# Altium footprint library SOT_SC.PcbLib: 14 footprints
Each footprint in its own frame and in the unit in brackets; x right, y up, seen from the top. Pads: shape width x height; smd on the part's side, far side on the other; paste and mask are expansions set on the pad; w line width, h text height; cw(c..) or ccw(c..) is an arc to the next point about the centre after c.
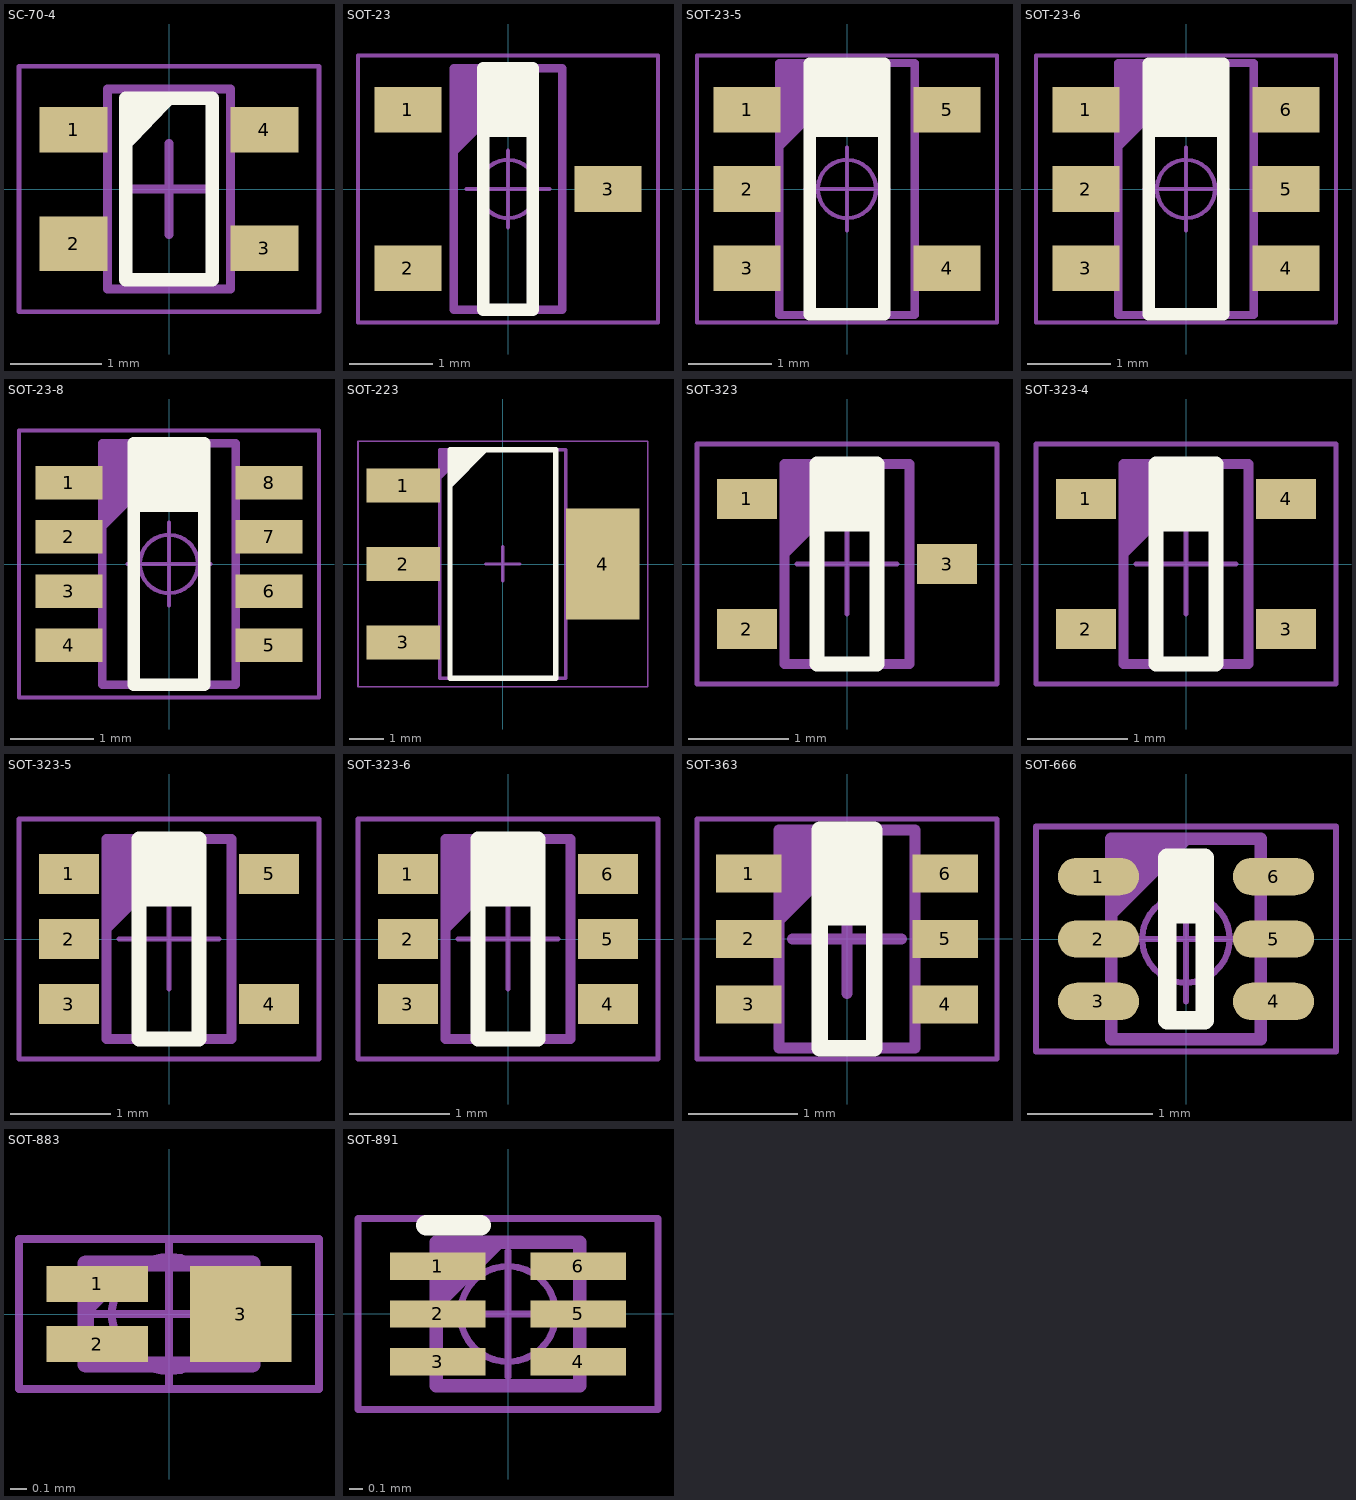
[diagram p0: the footprints below, top view; thin cyan lines are the x and y axes]

## SC-70-4 [mm] "SOT143, 4-Leads, Body 2,00x2,10mm, Pitch 1,30mm, IPC Medium Density"
height 1.1
pads (4):
  rect 0.75x0.5 smd: 1(-1.05,0.65) 3(1.05,-0.65) 4(1.05,0.65)
  rect 0.75x0.6 smd: 2(-1.05,-0.6)
Top Overlay:
  region: -0.475,0.4 -0.475,1 0.095,1
  lines w0.15: -0.475,-1 -0.475,1 0.475,1 0.475,-1 -0.475,-1
Mechanical 14:
  lines w0.1: -0.675,-1.1 0.675,-1.1 0.675,1.1 -0.675,1.1 -0.675,-1.1
  text ".Designator" at -0.4,-0.4 h0.5
Mechanical 15:
  lines w0.05: -1.65,-1.35 1.65,-1.35 1.65,1.35 -1.65,1.35 -1.65,-1.35
  lines w0.1: -0.5,0 0.5,0 ; 0,-0.5 0,0.5
3D body "SOT130P210X110-4N.step": height 1.1, standoff 0, extent -1.15,-1.1 1.15,1.1

## SOT-23 [mm]
pads (3):
  rect 0.8x0.55 smd: 1(-1.2,0.95) 2(-1.2,-0.95) 3(1.2,0)
Top Overlay:
  lines w0.15: -0.3,0.7 0.3,0.7 ; -0.3,0.85 0.3,0.85 ; -0.3,1 0.3,1 ; -0.3,1.15 0.3,1.15 ; -0.3,1.3 0.3,1.3 ; -0.3,-1.45 0.3,-1.45 0.3,1.45 -0.3,1.45 -0.3,-1.45
Mechanical 14:
  lines w0.1: -0.65,0.45 0.35,1.45 ; -0.65,0.55 0.25,1.45 ; -0.65,0.65 0.15,1.45 ; -0.65,0.75 0.05,1.45 ; -0.65,0.85 -0.05,1.45 ; -0.65,0.95 -0.15,1.45 ; -0.65,1.05 -0.25,1.45 ; -0.65,1.15 -0.35,1.45 ; -0.65,1.25 -0.45,1.45 ; -0.65,1.35 -0.55,1.45 ; -0.65,-1.45 -0.65,1.45 0.65,1.45 0.65,-1.45 -0.65,-1.45
  text ".Designator" at -0.45,-0.5 h0.3
Mechanical 15:
  circle w0.05: c0,0 r0.35
  lines w0.05: -0.5,0 0.5,0 ; 0,-0.46 0,0.46 ; -1.8,-1.6 -1.8,1.6 1.8,1.6 1.8,-1.6 -1.8,-1.6
3D body "SOT95P240X120-3N.stp": height 1.2, standoff 0, extent -1.25,-1.5 1.25,1.5

## SOT-23-5 [mm]
pads (5):
  rect 0.8x0.55 smd: 1(-1.2,0.95) 2(-1.2,0) 3(-1.2,-0.95) 4(1.2,-0.95) 5(1.2,0.95)
Top Overlay:
  lines w0.15: -0.425,0.7 0.425,0.7 ; -0.425,1.45 0.425,1.45 ; -0.4,0.8 0.4,0.8 ; -0.4,0.9 0.4,0.9 ; -0.4,1 0.4,1 ; -0.4,1.1 0.4,1.1 ; -0.4,1.2 0.4,1.2 ; -0.4,1.3 0.4,1.3 ; -0.45,-1.5 -0.45,1.5 0.45,1.5 0.45,-1.5 -0.45,-1.5
Mechanical 14:
  lines w0.1: -0.812,0.512 0.188,1.512 ; -0.812,0.612 0.088,1.512 ; -0.812,0.712 -0.012,1.512 ; -0.812,0.812 -0.112,1.512 ; -0.812,0.912 -0.212,1.512 ; -0.812,1.012 -0.312,1.512 ; -0.812,1.112 -0.412,1.512 ; -0.812,1.212 -0.512,1.512 ; -0.812,1.312 -0.612,1.512 ; -0.812,1.412 -0.712,1.512 ; -0.812,-1.512 -0.812,1.512 0.812,1.512 0.812,-1.512 -0.812,-1.512
  text ".Designator" at -0.45,-0.5 h0.3
Mechanical 15:
  circle w0.05: c0,0 r0.35
  lines w0.05: -0.5,0 0.5,0 ; 0,-0.5 0,0.5 ; -1.8,-1.6 -1.8,1.6 1.8,1.6 1.8,-1.6 -1.8,-1.6
3D body "SOT95P280X100-5N.stp": height 1, standoff 0, extent -1.4,-1.5 1.4,1.5

## SOT-23-6 [mm]
pads (6):
  rect 0.8x0.55 smd: 1(-1.2,0.95) 2(-1.2,0) 3(-1.2,-0.95) 4(1.2,-0.95) 5(1.2,0) 6(1.2,0.95)
Top Overlay:
  lines w0.15: -0.425,0.7 0.425,0.7 ; -0.425,1.45 0.425,1.45 ; -0.4,0.8 0.4,0.8 ; -0.4,0.9 0.4,0.9 ; -0.4,1 0.4,1 ; -0.4,1.1 0.4,1.1 ; -0.4,1.2 0.4,1.2 ; -0.4,1.3 0.4,1.3 ; -0.45,-1.5 -0.45,1.5 0.45,1.5 0.45,-1.5 -0.45,-1.5
Mechanical 14:
  lines w0.1: -0.812,0.512 0.188,1.512 ; -0.812,0.612 0.088,1.512 ; -0.812,0.712 -0.012,1.512 ; -0.812,0.812 -0.112,1.512 ; -0.812,0.912 -0.212,1.512 ; -0.812,1.012 -0.312,1.512 ; -0.812,1.112 -0.412,1.512 ; -0.812,1.212 -0.512,1.512 ; -0.812,1.312 -0.612,1.512 ; -0.812,1.412 -0.712,1.512 ; -0.812,-1.512 -0.812,1.512 0.812,1.512 0.812,-1.512 -0.812,-1.512
  text ".Designator" at -0.45,-0.5 h0.3
Mechanical 15:
  circle w0.05: c0,0 r0.35
  lines w0.05: -0.5,0 0.5,0 ; 0,-0.5 0,0.5 ; -1.8,-1.6 -1.8,1.6 1.8,1.6 1.8,-1.6 -1.8,-1.6
3D body "SOT95P285X110-6N.stp": height 1.1, standoff 0, extent -1.4,-1.5 1.48,1.5

## SOT-23-8 [mm]
pads (8):
  rect 0.8x0.4 smd: 1(-1.2,0.975) 2(-1.2,0.325) 3(-1.2,-0.325) 4(-1.2,-0.975) 5(1.2,-0.975) 6(1.2,-0.325) 7(1.2,0.325) 8(1.2,0.975)
Top Overlay:
  lines w0.15: -0.425,0.7 0.425,0.7 ; -0.4,1.3 0.4,1.3 ; -0.3,0.8 0.3,0.8 ; -0.3,0.9 0.3,0.9 ; -0.3,1 0.3,1 ; -0.3,1.1 0.3,1.1 ; -0.3,1.2 0.3,1.2 ; -0.425,-1.45 -0.425,1.45 0.425,1.45 0.425,-1.45 -0.425,-1.45
Mechanical 14:
  lines w0.1: -0.8,0.45 0.2,1.45 ; -0.8,0.55 0.1,1.45 ; -0.8,0.65 0,1.45 ; -0.8,0.75 -0.1,1.45 ; -0.8,0.85 -0.2,1.45 ; -0.8,0.95 -0.3,1.45 ; -0.8,1.05 -0.4,1.45 ; -0.8,1.15 -0.5,1.45 ; -0.8,1.25 -0.6,1.45 ; -0.8,1.35 -0.7,1.45 ; -0.8,-1.45 -0.8,1.45 0.8,1.45 0.8,-1.45 -0.8,-1.45
  text ".Designator" at -0.45,-0.5 h0.3
Mechanical 15:
  circle w0.05: c0,0 r0.35
  lines w0.05: -0.5,0 0.5,0 ; 0,-0.5 0,0.5 ; -1.8,-1.6 -1.8,1.6 1.8,1.6 1.8,-1.6 -1.8,-1.6
3D body "SOT65P280X145-8N.stp": height 1.2, standoff 0, extent -1.513,-1.45 1.513,1.45

## SOT-223 [mm] "SOT223, 4-Leads, Body 6,50x7,00mm (avg), Pitch 2,30mm, IPC Medium Density"
height 1.8
pads (4):
  rect 2.15x1 smd: 1(-2.925,2.3) 2(-2.925,0) 3(-2.925,-2.3)
  rect 2.15x3.25 smd: 4(2.925,0)
Top Overlay:
  lines w0.15: -1.55,2.3 -0.5,3.35 ; -1.55,2.5 -0.7,3.35 ; -1.55,2.7 -0.9,3.35 ; -1.55,2.9 -1.1,3.35 ; -1.55,3.1 -1.3,3.35 ; -1.55,-3.35 -1.55,3.35 1.55,3.35 1.55,-3.35 -1.55,-3.35
Mechanical 14:
  region: -1.85,3.35 -1.85,2.45 -0.95,3.35
  lines w0.1: -1.85,-3.35 -1.85,3.35 1.85,3.35 1.85,-3.35 -1.85,-3.35
  text ".Designator" at -0.9,-0.6 h1.2
Mechanical 15:
  lines w0.05: -4.25,-3.6 -4.25,3.6 4.25,3.6 4.25,-3.6 -4.25,-3.6
  lines w0.1: -0.5,0 0.5,0 ; 0,-0.5 0,0.5
3D body "SOT230P700X180-4N.step": height 1.8, standoff 0, extent -3.5,-3.35 3.5,3.35

## SOT-323 [mm]
pads (3):
  rect 0.6x0.4 smd: 1(-1,0.65) 2(-1,-0.65) 3(1,0)
Top Overlay:
  lines w0.15: -0.3,0.4 0.3,0.4 ; -0.3,0.5 0.3,0.5 ; -0.3,0.6 0.3,0.6 ; -0.3,0.7 0.3,0.7 ; -0.3,0.8 0.3,0.8 ; -0.3,0.9 0.3,0.9 ; -0.3,-1 -0.3,1 0.3,1 0.3,-1 -0.3,-1
Mechanical 14:
  lines w0.1: -0.625,0.1 0.275,1 ; -0.625,0.2 0.175,1 ; -0.625,0.3 0.075,1 ; -0.625,0.4 -0.025,1 ; -0.625,0.5 -0.125,1 ; -0.625,0.6 -0.225,1 ; -0.625,0.7 -0.325,1 ; -0.625,0.8 -0.425,1 ; -0.625,0.9 -0.525,1 ; -0.625,-1 0.625,-1 0.625,1 -0.625,1 -0.625,-1
  text ".Designator" at -0.45,-0.5 h0.3
Mechanical 15:
  lines w0.05: -0.5,0 0.5,0 ; 0,-0.5 0,0.5 ; -1.5,-1.2 1.5,-1.2 1.5,1.2 -1.5,1.2 -1.5,-1.2
3D body "SOT65P210X100-3N.stp": height 1, standoff 0, extent -1.1,-1.1 1.1,1.1

## SOT-323-4 [mm] "SC-82"
pads (4):
  rect 0.6x0.4 smd: 1(-1,0.65) 2(-1,-0.65) 3(1,-0.65) 4(1,0.65)
Top Overlay:
  lines w0.15: -0.3,0.4 0.3,0.4 ; -0.3,0.5 0.3,0.5 ; -0.3,0.6 0.3,0.6 ; -0.3,0.7 0.3,0.7 ; -0.3,0.8 0.3,0.8 ; -0.3,0.9 0.3,0.9 ; -0.3,-1 0.3,-1 0.3,1 -0.3,1 -0.3,-1
Mechanical 14:
  lines w0.1: -0.625,0.1 0.275,1 ; -0.625,0.2 0.175,1 ; -0.625,0.3 0.075,1 ; -0.625,0.4 -0.025,1 ; -0.625,0.5 -0.125,1 ; -0.625,0.6 -0.225,1 ; -0.625,0.7 -0.325,1 ; -0.625,0.8 -0.425,1 ; -0.625,0.9 -0.525,1 ; -0.625,-1 0.625,-1 0.625,1 -0.625,1 -0.625,-1
  text ".Designator" at -0.45,-0.5 h0.3
Mechanical 15:
  lines w0.05: -0.5,0 0.5,0 ; 0,-0.5 0,0.5 ; -1.5,-1.2 1.5,-1.2 1.5,1.2 -1.5,1.2 -1.5,-1.2
3D body "SOT65P210X110-5N.stp": height 1.1, standoff 0, extent -1.2,-1.1 1.2,1.1

## SOT-323-5 [mm]
pads (5):
  rect 0.6x0.4 smd: 1(-1,0.65) 2(-1,0) 3(-1,-0.65) 4(1,-0.65) 5(1,0.65)
Top Overlay:
  lines w0.15: -0.3,0.4 0.3,0.4 ; -0.3,0.5 0.3,0.5 ; -0.3,0.6 0.3,0.6 ; -0.3,0.7 0.3,0.7 ; -0.3,0.8 0.3,0.8 ; -0.3,0.9 0.3,0.9 ; -0.3,-1 -0.3,1 0.3,1 0.3,-1 -0.3,-1
Mechanical 14:
  lines w0.1: -0.625,0.1 0.275,1 ; -0.625,0.2 0.175,1 ; -0.625,0.3 0.075,1 ; -0.625,0.4 -0.025,1 ; -0.625,0.5 -0.125,1 ; -0.625,0.6 -0.225,1 ; -0.625,0.7 -0.325,1 ; -0.625,0.8 -0.425,1 ; -0.625,0.9 -0.525,1 ; -0.625,-1 -0.625,1 0.625,1 0.625,-1 -0.625,-1
  text ".Designator" at -0.45,-0.5 h0.3
Mechanical 15:
  lines w0.05: -0.5,0 0.5,0 ; 0,-0.5 0,0.5 ; -1.5,-1.2 -1.5,1.2 1.5,1.2 1.5,-1.2 -1.5,-1.2
3D body "SOT65P210X110-5N.stp": height 1.1, standoff 0, extent -1.2,-1.1 1.2,1.1

## SOT-323-6 [mm]
pads (6):
  rect 0.6x0.4 smd: 1(-1,0.65) 2(-1,0) 3(-1,-0.65) 4(1,-0.65) 5(1,0) 6(1,0.65)
Top Overlay:
  lines w0.15: -0.3,0.4 0.3,0.4 ; -0.3,0.5 0.3,0.5 ; -0.3,0.6 0.3,0.6 ; -0.3,0.7 0.3,0.7 ; -0.3,0.8 0.3,0.8 ; -0.3,0.9 0.3,0.9 ; -0.3,-1 -0.3,1 0.3,1 0.3,-1 -0.3,-1
Mechanical 14:
  lines w0.1: -0.625,0.1 0.275,1 ; -0.625,0.2 0.175,1 ; -0.625,0.3 0.075,1 ; -0.625,0.4 -0.025,1 ; -0.625,0.5 -0.125,1 ; -0.625,0.6 -0.225,1 ; -0.625,0.7 -0.325,1 ; -0.625,0.8 -0.425,1 ; -0.625,0.9 -0.525,1 ; -0.625,-1 -0.625,1 0.625,1 0.625,-1 -0.625,-1
  text ".Designator" at -0.45,-0.5 h0.3
Mechanical 15:
  lines w0.05: -0.5,0 0.5,0 ; 0,-0.5 0,0.5 ; -1.5,-1.2 -1.5,1.2 1.5,1.2 1.5,-1.2 -1.5,-1.2
3D body "SOT65P210X110-6N.stp": height 1.1, standoff 0, extent -1.2,-1.1 1.2,1.1

## SOT-363 [mm] "SOT23, 6-Leads, Body 2,00x2,10mm, Pitch 0,60mm, IPC High Density"
height 1.1
pads (6):
  rect 0.6x0.35 smd: 1(-0.9,0.6) 2(-0.9,0) 3(-0.9,-0.6) 4(0.9,-0.6) 5(0.9,0) 6(0.9,0.6)
Top Overlay:
  lines w0.15: -0.25,0.2 0.25,0.2 ; -0.25,0.3 0.25,0.3 ; -0.25,0.4 0.25,0.4 ; -0.25,0.5 0.25,0.5 ; -0.25,0.6 0.25,0.6 ; -0.25,0.7 0.25,0.7 ; -0.25,0.8 0.25,0.8 ; -0.25,0.9 0.25,0.9 ; -0.25,-1 0.25,-1 0.25,1 -0.25,1 -0.25,-1
Mechanical 14:
  region: -0.625,1 -0.625,0.1 0.275,1
  lines w0.1: -0.625,-1 -0.625,1 0.625,1 0.625,-1 -0.625,-1
  text ".Designator" at -0.4,-0.55 h0.3
Mechanical 15:
  lines w0.05: -1.375,-1.1 -1.375,1.1 1.375,1.1 1.375,-1.1 -1.375,-1.1
  lines w0.1: -0.5,0 0.5,0 ; 0,-0.5 0,0.5
3D body "SOT60P210X110-6L.step": height 1.1, standoff 0.01, extent -1.048,-1 1.048,1

## SOT-666 [mm] "SOTFL (SOT666), 0.50mm, Pitch; 6 Pin, 1.20mm W X 1.60mm L X 0.60mm H Body, IPC Medium Density"
height 0.6
pads (6):
  oval 0.65x0.3 smd: 1(-0.7,0.5) 2(-0.7,0) 3(-0.7,-0.5) 4(0.7,-0.5) 5(0.7,0) 6(0.7,0.5)
Top Overlay:
  lines w0.15: -0.15,0.2 0.15,0.2 ; -0.15,0.35 0.15,0.35 ; -0.15,0.45 0.15,0.45 ; -0.15,0.55 0.15,0.55 ; -0.15,-0.65 -0.15,0.65 0.15,0.65 0.15,-0.65 -0.15,-0.65
Mechanical 14:
  lines w0.1: -0.6,0.2 0,0.8 ; -0.6,0.3 -0.1,0.8 ; -0.6,0.4 -0.2,0.8 ; -0.6,0.5 -0.3,0.8 ; -0.6,0.6 -0.4,0.8 ; -0.6,0.7 -0.5,0.8 ; -0.6,-0.8 0.6,-0.8 0.6,0.8 -0.6,0.8 -0.6,-0.8
  text ".Designator" at -0.4,-0.55 h0.3
Mechanical 15:
  circle w0.05: c0,0 r0.35
  lines w0.05: -0.5,0 0.5,0 ; 0,-0.5 0,0.5 ; -1.2,-0.9 1.2,-0.9 1.2,0.9 -1.2,0.9 -1.2,-0.9
3D body "SOT50P160X60-6.STEP": height 0.6, standoff 0, extent -0.8,-0.795 0.8,0.795

## SOT-883 [mm] "DFN, 3-Leads, Body 0,59x0,98mm, Pitch 0,65mm, IPC Medium Density"
height 0.5
pads (3):
  rect 0.62x0.22 smd: 1(-0.44,0.185) 2(-0.44,-0.185)
  rect 0.62x0.59 smd: 3(0.44,0)
Mechanical 14:
  region: -0.51,0.31 -0.51,-0.035 -0.165,0.31
  lines w0.1: -0.51,-0.31 0.51,-0.31 0.51,0.31 -0.51,0.31 -0.51,-0.31
  text ".Designator" at -0.2,-0.1 h0.2
Mechanical 15:
  circle w0.05: c0,0 r0.35
  lines w0.05: -0.5,0 0.5,0 ; 0,-0.46 0,0.46 ; -0.92,-0.46 0.92,-0.46 0.92,0.46 -0.92,0.46 -0.92,-0.46
3D body "DFN65P98X50-3N.step": height 0.5, standoff 0, extent -0.51,-0.31 0.51,0.31

## SOT-891 [mm] "SON, 6-Leads, Body 1,00x1,00mm, Pitch 0,35mm, IPC High Density"
height 0.5
pads (6):
  rect 0.7x0.2 smd: 1(-0.515,0.35) 2(-0.515,0) 3(-0.515,-0.35) 4(0.515,-0.35) 5(0.515,0) 6(0.515,0.35)
Top Overlay:
  lines w0.15: -0.6,0.65 -0.2,0.65
Mechanical 14:
  region: -0.525,0.525 -0.525,0 0,0.525
  lines w0.1: -0.525,-0.525 -0.525,0.525 0.525,0.525 0.525,-0.525 -0.525,-0.525
  text ".Designator" at -0.35,-0.15 h0.25
Mechanical 15:
  circle w0.05: c0,0 r0.35
  lines w0.05: -0.5,0 0.5,0 ; 0,-0.46 0,0.46 ; -1.1,-0.7 -1.1,0.7 1.1,0.7 1.1,-0.7 -1.1,-0.7
3D body "SON35P100X50-6L.step": height 0.5, standoff 0, extent -0.565,-0.525 0.565,0.525